# Altium schematic symbol library Connectors-Other.SchLib: 6 symbols
Pins are listed as number, name and electrical type; pins without a type are passive.

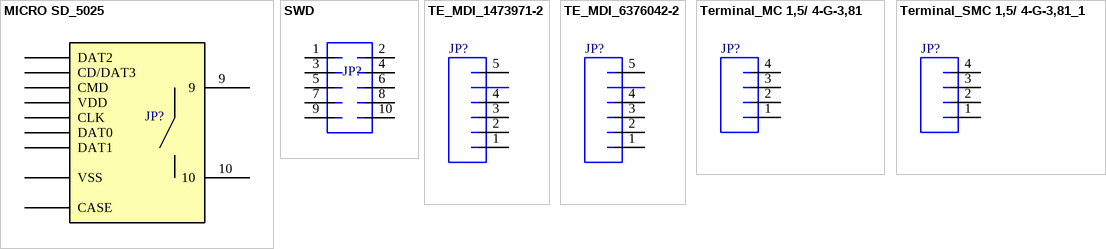
[diagram p0: symbols MICRO SD_5025 to Terminal_SMC 1,5/ 4-G-3,81_1]

## MICRO SD_5025
designator JP?, comment MICRO SD TOP MOUNT  (value not drawn)
MICRO SD Slot / TOP MOUNT / FRONT; Manufacturer: Molex; PartNumber: 5025700893; Mounting Technology: SMD; PackageReference: Header-1.27mm-2x5
footprint MICRO SD_502570 (TOP MOUNT / FRONT)
pins: 9, 10, CASE, CD/DAT3, CLK, CMD, DAT0, DAT1, DAT2, VDD, VSS

## SWD
designator JP?, comment 1.27mm SWD Connector  (value not drawn)
Manufacturer: Samtec; PartNumber: FTSH-105-01-F-DV; Mounting Technology: SMD; PackageReference: Header-1.27mm-2x5
footprint SWD-SMD
pins: 1, 2, 3, 4, 5, 6, 7, 8, 9, 10

## TE_MDI_1473971-2
designator JP?
BLADE CONNECTOR, 5 PIN, FEMALE, HORIZ; PartNumber: 1473971-2; Manufacturer: TE Connectivity; Mounting Technology: Through Hole
footprint TE_1473971-2
pins: 1, 2, 3, 4, 5

## TE_MDI_6376042-2
designator JP?
BLADE CONNECTOR, 5 PIN, MALE, HORIZ; PartNumber: 6376042-2; Manufacturer: TE Connectivity; Mounting Technology: Through Hole
footprint TE_6376042-2
pins: 1, 2, 3, 4, 5

## Terminal_MC 1,5/ 4-G-3,81
designator JP?
PartNumber: 1803293; Manufacturer: Phoenix Contact; MatePart: 1803594; PackageReference: MC; Mounting Technology: Through Hole
footprint Terminal-3.81-HORZ
pins: 1, 2, 3, 4

## Terminal_SMC 1,5/ 4-G-3,81_1
designator JP?
PartNumber: 1827295; Manufacturer: Phoenix Contact; MatePart: 1803594; PackageReference: SMC; Mounting Technology: Through Hole
footprint Terminal-3.81-45'
pins: 1, 2, 3, 4